# EAGLE library part MEGA_ARDUINO (library ARDUINO_DODO)
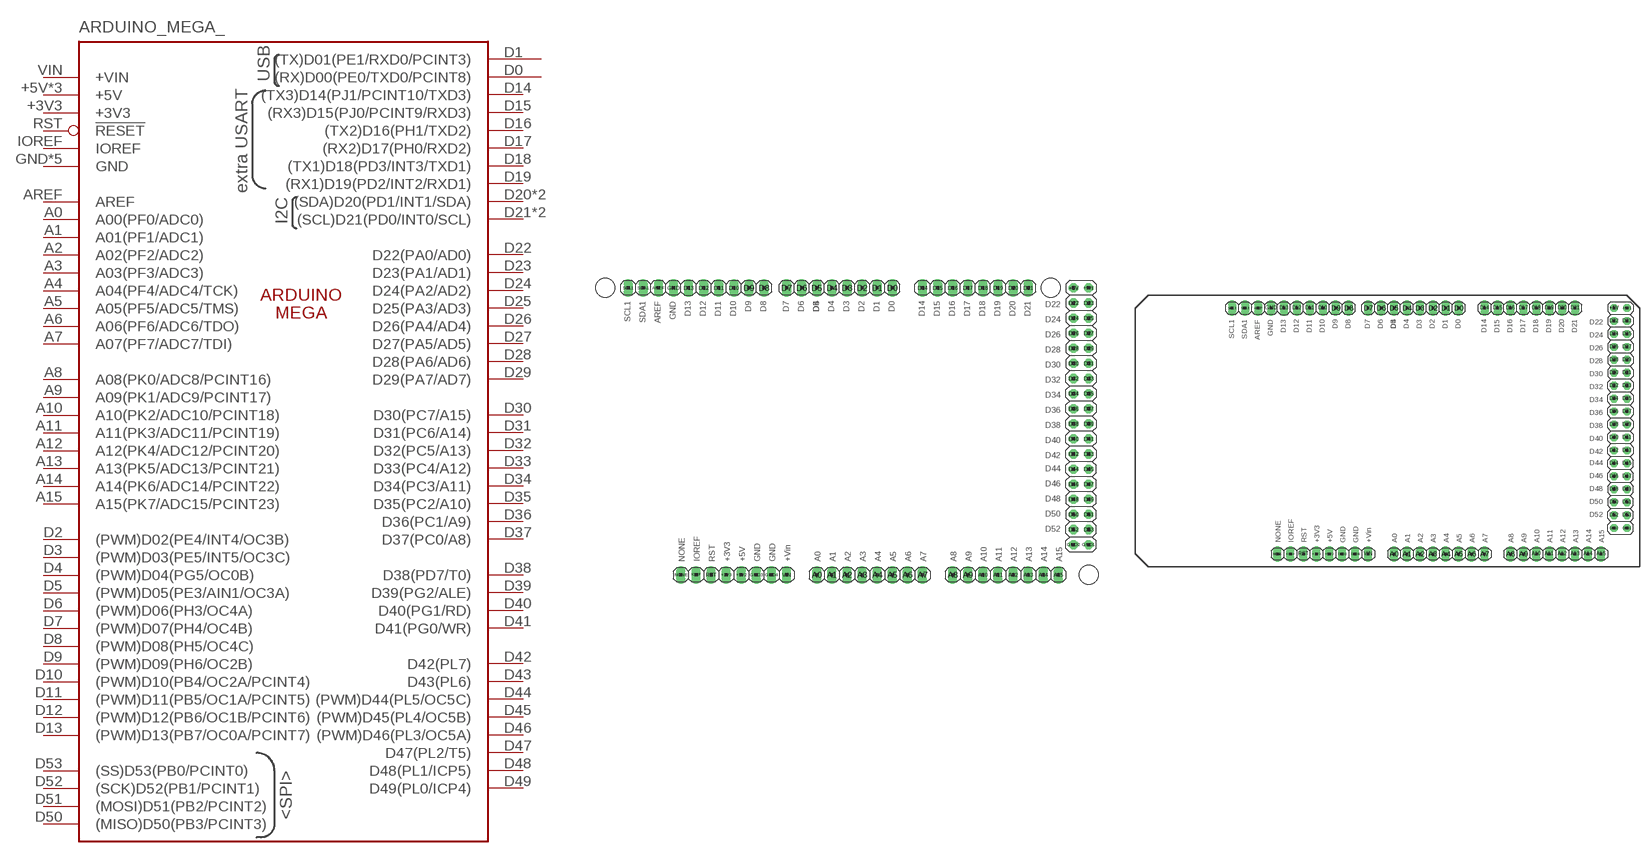
[diagram p0: symbol with the pads of MEGA_ARDUINO; footprints MEGA_ARDUINO, MEGA-NO-HOLE]

Designator prefix ARDUINO_MEGA_

## MEGA_ARDUINO  [MEGA_ARDUINO]
+3V3  +3V3
+5V  +5V
+5V1  +5V
+5V2  +5V
A0  A00(PF0/ADC0)
A1  A01(PF1/ADC1)
A2  A02(PF2/ADC2)
A3  A03(PF3/ADC3)
A4  A04(PF4/ADC4/TCK)
A5  A05(PF5/ADC5/TMS)
A6  A06(PF6/ADC6/TDO)
A7  A07(PF7/ADC7/TDI)
A8  A08(PK0/ADC8/PCINT16)
A9  A09(PK1/ADC9/PCINT17)
A10  A10(PK2/ADC10/PCINT18)
A11  A11(PK3/ADC11/PCINT19)
A12  A12(PK4/ADC12/PCINT20)
A13  A13(PK5/ADC13/PCINT21)
A14  A14(PK6/ADC14/PCINT22)
A15  A15(PK7/ADC15/PCINT23)
AREF  AREF
D0  (RX)D00(PE0/TXD0/PCINT8)
D1  (TX)D01(PE1/RXD0/PCINT3)
D2  (PWM)D02(PE4/INT4/OC3B)
D3  (PWM)D03(PE5/INT5/OC3C)
D4  (PWM)D04(PG5/OC0B)
D5  (PWM)D05(PE3/AIN1/OC3A)
D6  (PWM)D06(PH3/OC4A)
D7  (PWM)D07(PH4/OC4B)
D8  (PWM)D08(PH5/OC4C)
D9  (PWM)D09(PH6/OC2B)
D10  (PWM)D10(PB4/OC2A/PCINT4)
D11  (PWM)D11(PB5/OC1A/PCINT5)
D12  (PWM)D12(PB6/OC1B/PCINT6)
D13  (PWM)D13(PB7/OC0A/PCINT7)
D14  (TX3)D14(PJ1/PCINT10/TXD3)
D15  (RX3)D15(PJ0/PCINT9/RXD3)
D16  (TX2)D16(PH1/TXD2)
D17  (RX2)D17(PH0/RXD2)
D18  (TX1)D18(PD3/INT3/TXD1)
D19  (RX1)D19(PD2/INT2/RXD1)
D20  (SDA)D20(PD1/INT1/SDA)
D21  (SCL)D21(PD0/INT0/SCL)
D22  D22(PA0/AD0)
D23  D23(PA1/AD1)
D24  D24(PA2/AD2)
D25  D25(PA3/AD3)
D26  D26(PA4/AD4)
D27  D27(PA5/AD5)
D28  D28(PA6/AD6)
D29  D29(PA7/AD7)
D30  D30(PC7/A15)
D31  D31(PC6/A14)
D32  D32(PC5/A13)
D33  D33(PC4/A12)
D34  D34(PC3/A11)
D35  D35(PC2/A10)
D36  D36(PC1/A9)
D37  D37(PC0/A8)
D38  D38(PD7/T0)
D39  D39(PG2/ALE)
D40  D40(PG1/RD)
D41  D41(PG0/WR)
D42  D42(PL7)
D43  D43(PL6)
D44  (PWM)D44(PL5/OC5C)
D45  (PWM)D45(PL4/OC5B)
D46  (PWM)D46(PL3/OC5A)
D47  D47(PL2/T5)
D48  D48(PL1/ICP5)
D49  D49(PL0/ICP4)
D50  (MISO)D50(PB3/PCINT3)
D51  (MOSI)D51(PB2/PCINT2)
D52  (SCK)D52(PB1/PCINT1)
D53  (SS)D53(PB0/PCINT0)
GND  GND
GND1  GND
GND2  GND
GND3  GND
GND4  GND
IOREF  IOREF
RST  !RESET
SCL1  (SCL)D21(PD0/INT0/SCL)
SDA1  (SDA)D20(PD1/INT1/SDA)
VIN  +VIN

## MEGA_ARDUINONO-HOLE  [MEGA-NO-HOLE]
Pads as for MEGA_ARDUINO

## Footprint MEGA_ARDUINO (pad centres in mm)
drill 1.016 long: +3V3 35.56,2.54; +5V2 38.1,2.54; A0 50.8,2.54; A1 53.34,2.54; A2 55.88,2.54; A3 58.42,2.54; A4 60.96,2.54; A5 63.5,2.54; A6 66.04,2.54; A7 68.58,2.54; A8 73.66,2.54; A9 76.2,2.54; A10 78.74,2.54; A11 81.28,2.54; A12 83.82,2.54; A13 86.36,2.54; A14 88.9,2.54; A15 91.44,2.54; AREF 24.13,50.8; D0 63.5,50.8; D1 60.96,50.8; D2 58.42,50.8; D3 55.88,50.8; D4 53.34,50.8; D5 50.8,50.8; D6 48.26,50.8; D7 45.72,50.8; D8 41.91,50.8; D9 39.37,50.8; D10 36.83,50.8; D11 34.29,50.8; D12 31.75,50.8; D13 29.21,50.8; D14 68.58,50.8; D15 71.12,50.8; D16 73.66,50.8; D17 76.2,50.8; D18 78.74,50.8; D19 81.28,50.8; D20 83.82,50.8; D21 86.36,50.8; GND 26.67,50.8; GND3 40.64,2.54; GND4 43.18,2.54; IOREF 30.48,2.54; NONE 27.94,2.54; RST 33.02,2.54; SCL1 19.05,50.8; SDA1 21.59,50.8; VIN 45.72,2.54
drill 1.016 octagon: +5V 93.98,50.8; +5V1 96.52,50.8; D22 93.98,48.26; D23 96.52,48.26; D24 93.98,45.72; D25 96.52,45.72; D26 93.98,43.18; D27 96.52,43.18; D28 93.98,40.64; D29 96.52,40.64; D30 93.98,38.1; D31 96.52,38.1; D32 93.98,35.56; D33 96.52,35.56; D34 93.98,33.02; D35 96.52,33.02; D36 93.98,30.48; D37 96.52,30.48; D38 93.98,27.94; D39 96.52,27.94; D40 93.98,25.4; D41 96.52,25.4; D42 93.98,22.86; D43 96.52,22.86; D44 93.98,20.32; D45 96.52,20.32; D46 93.98,17.78; D47 96.52,17.78; D48 93.98,15.24; D49 96.52,15.24; D50 93.98,12.7; D51 96.52,12.7; D52 93.98,10.16; D53 96.52,10.16; GND1 96.52,7.62; GND2 93.98,7.62
hole 3.2 at 96.52,2.54
hole 3.2 at 15.24,50.8
hole 3.2 at 90.17,50.8

## Footprint MEGA-NO-HOLE (pad centres in mm)
drill 1.016 long: +3V3 35.56,2.54; +5V2 38.1,2.54; A0 50.8,2.54; A1 53.34,2.54; A2 55.88,2.54; A3 58.42,2.54; A4 60.96,2.54; A5 63.5,2.54; A6 66.04,2.54; A7 68.58,2.54; A8 73.66,2.54; A9 76.2,2.54; A10 78.74,2.54; A11 81.28,2.54; A12 83.82,2.54; A13 86.36,2.54; A14 88.9,2.54; A15 91.44,2.54; AREF 24.13,50.8; D0 63.5,50.8; D1 60.96,50.8; D2 58.42,50.8; D3 55.88,50.8; D4 53.34,50.8; D5 50.8,50.8; D6 48.26,50.8; D7 45.72,50.8; D8 41.91,50.8; D9 39.37,50.8; D10 36.83,50.8; D11 34.29,50.8; D12 31.75,50.8; D13 29.21,50.8; D14 68.58,50.8; D15 71.12,50.8; D16 73.66,50.8; D17 76.2,50.8; D18 78.74,50.8; D19 81.28,50.8; D20 83.82,50.8; D21 86.36,50.8; GND 26.67,50.8; GND3 40.64,2.54; GND4 43.18,2.54; IOREF 30.48,2.54; NONE 27.94,2.54; RST 33.02,2.54; SCL1 19.05,50.8; SDA1 21.59,50.8; VIN 45.72,2.54
drill 1.016 octagon: +5V 93.98,50.8; +5V1 96.52,50.8; D22 93.98,48.26; D23 96.52,48.26; D24 93.98,45.72; D25 96.52,45.72; D26 93.98,43.18; D27 96.52,43.18; D28 93.98,40.64; D29 96.52,40.64; D30 93.98,38.1; D31 96.52,38.1; D32 93.98,35.56; D33 96.52,35.56; D34 93.98,33.02; D35 96.52,33.02; D36 93.98,30.48; D37 96.52,30.48; D38 93.98,27.94; D39 96.52,27.94; D40 93.98,25.4; D41 96.52,25.4; D42 93.98,22.86; D43 96.52,22.86; D44 93.98,20.32; D45 96.52,20.32; D46 93.98,17.78; D47 96.52,17.78; D48 93.98,15.24; D49 96.52,15.24; D50 93.98,12.7; D51 96.52,12.7; D52 93.98,10.16; D53 96.52,10.16; GND1 96.52,7.62; GND2 93.98,7.62